# EAGLE library part MAX4586 (library MAX4586)
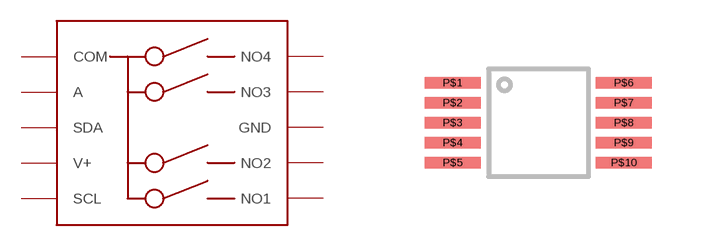
[diagram p0: symbol with the pads of UMAX10; footprint UMAX10]

Designator prefix -

## MAX4586  [UMAX10]
P$1  COM
P$2  A
P$3  SDA
P$4  V+
P$5  SCL
P$6  NO1
P$7  NO2
P$8  GND
P$9  NO3
P$10  NO4

## Footprint UMAX10 (pad centres in mm)
smd 1.4 x 0.28: P$1 -6.6,4.75; P$2 -6.6,4.25; P$3 -6.6,3.75; P$4 -6.6,3.25; P$5 -6.6,2.75; P$6 -2.32,4.75; P$7 -2.32,4.25; P$8 -2.32,3.75; P$9 -2.32,3.25; P$10 -2.32,2.75